# Altium footprint library RESISTOR_ARRAY_4X_0603.PcbLib: 1 footprints
Each footprint in its own frame and in the unit in brackets; x right, y up, seen from the top. Pads: shape width x height; smd on the part's side, far side on the other; paste and mask are expansions set on the pad; w line width, h text height; cw(c..) or ccw(c..) is an arc to the next point about the centre after c.
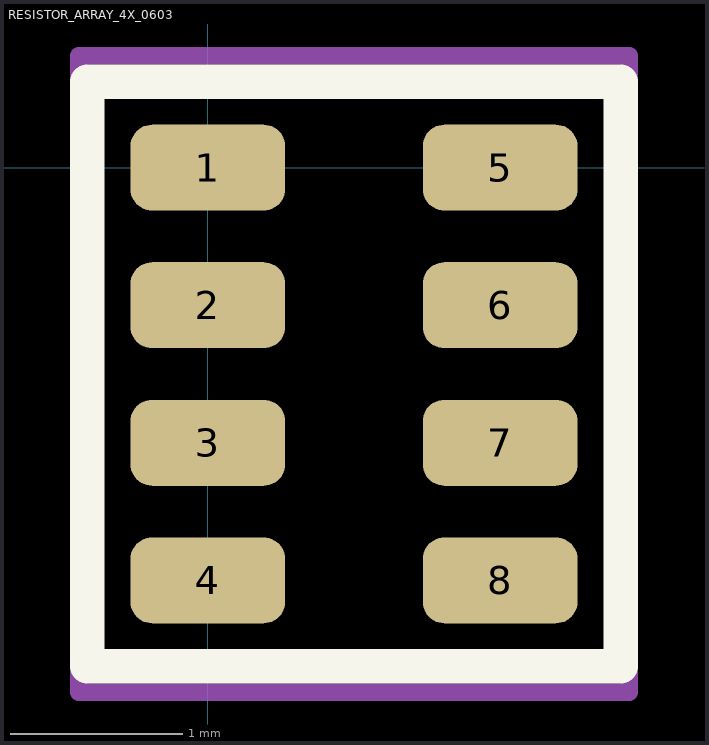
[diagram p0: the footprint, top view; thin cyan lines are the x and y axes]

## RESISTOR_ARRAY_4X_0603 [mm]
pads (8):
  rrect50% 0.9x0.5 smd: 1(0,0) 2(0,-0.8) 3(0,-1.6) 4(0,-2.4) 5(1.7,0) 6(1.7,-0.8) 7(1.7,-1.6) 8(1.7,-2.4)
Top Overlay:
  lines w0.2: -0.7,-2.9 -0.7,0.5 2.4,0.5 2.4,-2.9 -0.7,-2.9
Top Courtyard:
  lines w0.1: -0.75,-3.05 2.45,-3.05 2.45,0.65 -0.75,0.65 -0.75,-3.05
3D body "step_temp.STEP": height 1, standoff 0, extent 0.05,-2.8 1.65,0.4